# Altium footprint library DS1022-2x3RF11.PcbLib: 1 footprints
Each footprint in its own frame and in the unit in brackets; x right, y up, seen from the top. Pads: shape width x height; smd on the part's side, far side on the other; paste and mask are expansions set on the pad; w line width, h text height; cw(c..) or ccw(c..) is an arc to the next point about the centre after c.
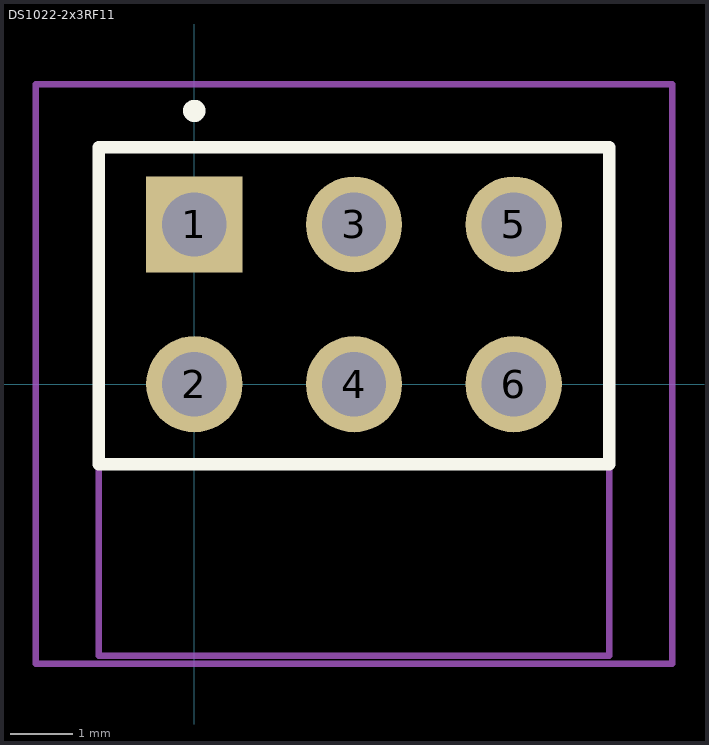
[diagram p0: the footprint, top view; thin cyan lines are the x and y axes]

## DS1022-2x3RF11 [mm]
pads (6):
  rect 1.53x1.53 hole 1.02: 1(0,2.54)
  round 1.53 hole 1.02: 2(0,0) 3(2.54,2.54) 4(2.54,0) 5(5.08,2.54) 6(5.08,0)
Top Overlay:
  lines w0.2: -1.52,-1.27 -1.52,3.77 6.6,3.77 6.6,-1.27 -1.52,-1.27
  lines w0.254: 0,4.296 cw(c0,4.346) 0,4.396 cw(c0,4.346) 0,4.296
Mechanical 13:
  lines w0.1: -1.52,-4.318 6.6,-4.318 6.6,3.77 -1.52,3.77 -1.52,-4.318
Mechanical 15:
  lines w0.1: -2.52,-4.445 -2.52,4.77 7.6,4.77 7.6,-4.445 -2.52,-4.445
3D body "PLD-6R1.step": height 5.08, standoff -3, extent -1.27,-10.18 6.35,2.86